# Altium schematic symbol library KGM21AR51A476MU.SchLib: 1 symbol
Pins are listed as number, name and electrical type; pins without a type are passive.

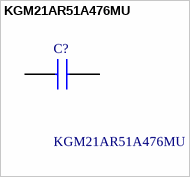
[diagram p0: symbol KGM21AR51A476MU]

## KGM21AR51A476MU
designator C?
Multilayer Ceramic Capacitors MLCC - SMD/SMT 10V 47uF X5R 0805 20%; Manufacturer_Name: Kyocera AVX; Geometry.Height: 1.45mm; Mouser Part Number: 581-KGM21AR51A476MU; Mouser Price/Stock: https://www.mouser.co.uk/ProductDetail/KYOCERA-AVX/KGM21AR51A476MU?qs=Jm2GQyTW%2Fbh2M%2FAPQlqugw%3D%3D; Manufacturer_Part_Number: KGM21AR51A476MU; Datasheet Link: https://www.mouser.it/datasheet/2/40/cx5r_KGM-3223198.pdf
footprint CAPC2012X145N
pins: 1, 2